# Altium integrated library ECS-80-20-5PX-TR.IntLib: 1 symbol
Pins are listed as number, name and electrical type; pins without a type are passive.

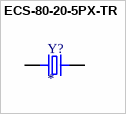
[diagram p0: symbol ECS-80-20-5PX-TR]

## ECS-80-20-5PX-TR
designator Y?
کریستال 20 پیکوفاراد 60 اهم HC-49/US با فرکانس 8 مگاهرتز و ±30ppm; MF: ECS Inc.; MP: ECS-80-20-5PX-TR
footprint XTAL_ECS-80-20-5PX-TR
pins: 1, 2